# Altium schematic symbol library GENERIC_CRYSTAL.SchLib: 1 symbol
Pins are listed as number, name and electrical type; pins without a type are passive.

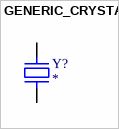
[diagram p0: symbol GENERIC_CRYSTAL]

## GENERIC_CRYSTAL
designator Y?
pins: 1, 2